# Altium footprint library 集成块.PcbLib: 75 footprints (part 5 of 5)
Each footprint in its own frame and in the unit in brackets; x right, y up, seen from the top. Pads: shape width x height; smd on the part's side, far side on the other; paste and mask are expansions set on the pad; w line width, h text height; cw(c..) or ccw(c..) is an arc to the next point about the centre after c.
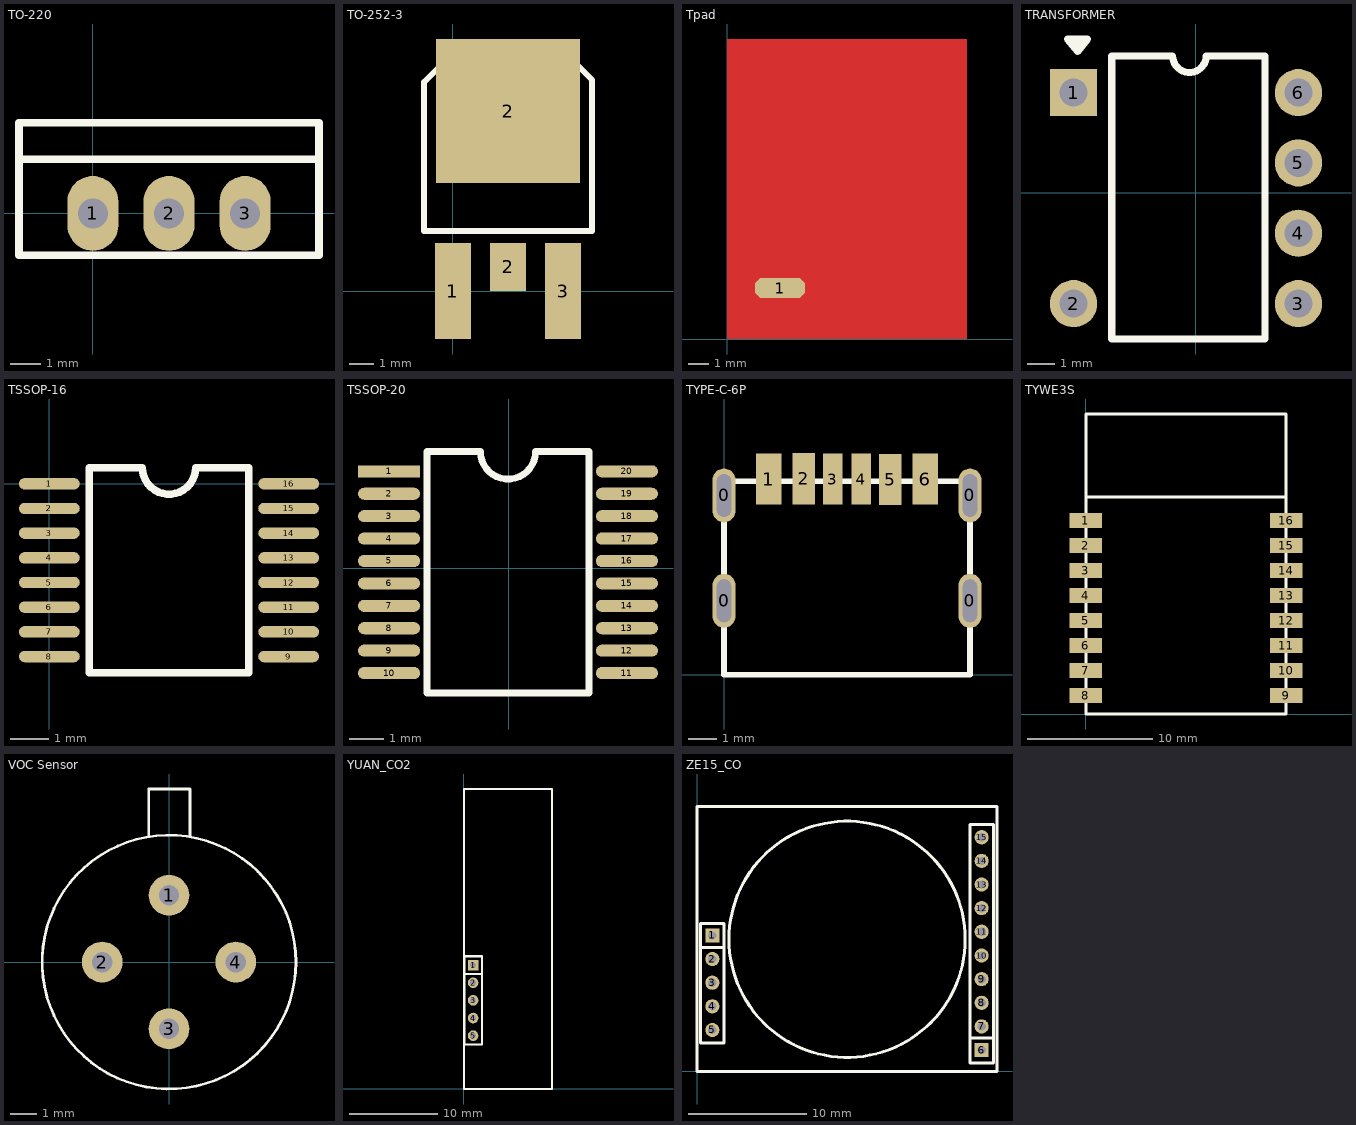
[diagram p4: the footprints below, top view; thin cyan lines are the x and y axes]

## TO-220 [mm]
pads (3):
  oval 1.7x2.5 hole 1: 1(0,0) 2(2.54,0) 3(5.08,0)
Top Overlay:
  lines w0.254: -2.464,1.803 7.544,1.803 ; -2.464,-1.397 7.544,-1.397 7.544,3.023 -2.464,3.023 -2.464,-1.397

## TO-252-3 [mm]
pads (4):
  rect 1.5x4 smd: 1(0,0) 3(4.6,0)
  rect 1.5x2 smd: 2(2.3,1)
  rect 6x6 smd: 2(2.3,7.5)
Top Overlay:
  lines w0.254: 4.6,9.5 5.1,9.5 5.8,8.8 5.8,8 5.8,2.5 -1.2,2.5 -1.2,8 -1.2,8.7 -0.4,9.5 -0.1,9.5 4.7,9.5

## Tpad [mm]
pads (1):
  oct 2.5x1 smd: 1(2.65,2.55)
Top Layer:
  rectangle: 0,0 12,15

## TRANSFORMER [mm]
pads (6):
  rect 1.7x1.7 hole 1: 1(-4.394,3.607)
  round 1.7 hole 1: 2(-4.394,-3.993) 3(3.706,-3.993) 4(3.706,-1.46) 5(3.706,1.073) 6(3.706,3.607)
Top Overlay:
  lines w0.254: -4.569,5.532 -3.894,5.532 -4.244,5.082 -4.619,5.532 -4.294,5.257 -4.119,5.457 ; -3.019,-5.268 2.506,-5.268 2.506,4.932 0.385,4.932 cw(c-0.219,4.932) -0.824,4.932 -3.019,4.932 -3.019,-5.268

## TSSOP-16 [mm]
pads (16):
  oval 1.6x0.3 smd: 1(0,0) 2(0,-0.65) 3(0,-1.3) 4(0,-1.95) 5(0,-2.6) 6(0,-3.25) 7(0,-3.9) 8(0,-4.55) 9(6.3,-4.55) 10(6.3,-3.9) 11(6.3,-3.25) 12(6.3,-2.6) 13(6.3,-1.95) 14(6.3,-1.3) 15(6.3,-0.65) 16(6.3,0)
Top Overlay:
  lines w0.2: 1.05,-4.975 1.05,0.425 2.45,0.425 ccw(c3.15,0.425) 3.85,0.425 5.25,0.425 5.25,-4.975 1.05,-4.975

## TSSOP-20 [mm]
pads (20):
  rect 1.8x0.35 smd: 1(-3.471,2.809)
  oval 1.8x0.35 smd: 2(-3.471,2.159) 3(-3.471,1.509) 4(-3.471,0.859) 5(-3.471,0.209) 6(-3.471,-0.441) 7(-3.471,-1.091) 8(-3.471,-1.741) 9(-3.471,-2.391) 10(-3.471,-3.041) 11(3.429,-3.041) 12(3.429,-2.391) 13(3.429,-1.741) 14(3.429,-1.091) 15(3.429,-0.441) 16(3.429,0.209) 17(3.429,0.859) 18(3.429,1.509) 19(3.429,2.159) 20(3.429,2.809)
Top Overlay:
  lines w0.2: -2.371,3.384 -2.371,-3.616 2.329,-3.616 2.329,3.384 ; -0.821,3.384 ccw(c-0.021,3.384) 0.779,3.384
  lines w0.203: -2.371,3.384 -0.821,3.384 ; 0.779,3.384 2.329,3.384

## TYPE-C-6P [mm]
pads (10):
  oval 0.8x1.9 hole 0.5 slot 1.5 at 90 deg: 0(0,2.6) 0(0,6.3) 0(8.64,2.6) 0(8.64,6.3)
  rect 0.9x1.8 smd: 1(1.57,6.876) 6(7.07,6.876)
  rect 0.8x1.8 smd: 2(2.8,6.883) 5(5.84,6.858)
  rect 0.7x1.8 smd: 3(3.82,6.876) 4(4.82,6.876)
Top Overlay:
  lines w0.2: 8.636,6.782 8.64,6.778 8.64,0 0,0 0,6.8 8.636,6.8

## TYWE3S [mm]
height 3.3
pads (16):
  rect 2.6x1.2 smd: 1(0,15.48) 2(0,13.48) 3(0,11.48) 4(0,9.48) 5(0,7.48) 6(0,5.48) 7(0,3.48) 8(0,1.48) 9(16,1.48) 10(16,3.48) 11(16,5.48) 12(16,7.48) 13(16,9.48) 14(16,11.48) 15(16,13.48) 16(16,15.48)
Top Overlay:
  lines w0.254: 0,17.37 16,17.37 ; 0,0 0,24 16,24 16,0 0,0

## VOC Sensor [mil]
pads (4):
  round 60 hole 30: 1(0,98.43) 2(-98.43,0) 3(0,-98.43) 4(98.43,0)
Top Overlay:
  circle w3.94: c0,0 r187.01
  lines w3.94: -30,185 -30,255 31,255 31,185

## YUAN_CO2 [mm]
pads (5):
  rect 1.2x1.2 hole 0.7: 1(1.041,14.045)
  round 1.2 hole 0.7: 2(1.041,12.045) 3(1.041,10.045) 4(1.041,8.045) 5(1.041,6.045)
Top Overlay:
  lines w0.2: 9.989,34 0,34 0,0 10,0 10,34
  lines w0.25: 0.041,15.045 2.041,15.045
  lines w0.254: 0.041,13.045 2.041,13.045 2.041,15.045 2.041,5.045 0.041,5.045 0.041,15.045

## ZE15_CO [mm]
pads (15):
  rect 1.2x1.2 hole 0.7: 1(1.3,11.5) 6(24.1,1.8)
  round 1.2 hole 0.7: 2(1.3,9.5) 3(1.3,7.5) 4(1.3,5.5) 5(1.3,3.5) 7(24.1,3.8) 8(24.1,5.8) 9(24.1,7.8) 10(24.1,9.8) 11(24.1,11.813) 12(24.1,13.813) 13(24.1,15.813) 14(24.1,17.813) 15(24.1,19.813)
Top Overlay:
  circle w0.254: c12.708,11.176 r10
  lines w0.25: 0.3,12.5 2.3,12.5
  lines w0.254: 0.3,10.5 2.3,10.5 2.3,12.5 2.3,2.407 0.3,2.407 0.3,12.5 ; 23.095,20.881 25.095,20.881 ; 23.1,20.881 23.1,0.707 25.1,0.707 25.1,20.881 ; 23.105,2.821 25.086,2.821 ; 0,0 25.4,0 25.4,22.4 0,22.4 0,0